# EAGLE library part LPS22HDTR (library Pressure)
Board Mount Pressure Sensors Piezoresistive absolute pressure sensor, 260-1260 hPa, digital output barometer, small and thin package Source: Datasheet <https://www.st.com/resource/en/datasheet/lps22hd.pdf>
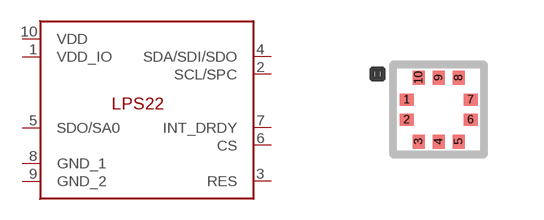
[diagram p0: symbol with the pads of LPS22HDTR; footprint LPS22HDTR]

Designator prefix U

## LPS22HDTR (DESCRIPTION: Board Mount Pressure Sensors Piezoresistive absolute pressure sensor, 260-1260 hPa, digital output barometer, small and thin package; HEIGHT: 0.8mm; MANUFACTURER_NAME: STMicroelectronics; MANUFACTURER_PART_NUMBER: LPS22HDTR; MOUSER_PART_NUMBER: 511-LPS22HDTR; MOUSER_PRICE-STOCK: https://www.mouser.co.uk/ProductDetail/STMicroelectronics/LPS22HDTR?qs=qVqInAHJvrZgdoVrJXJCrw%3D%3D)  [LPS22HDTR]
1  VDD_IO
2  SCL/SPC
3  RES
4  SDA/SDI/SDO
5  SDO/SA0
6  CS
7  INT_DRDY
8  GND_1
9  GND_2
10  VDD

## Footprint LPS22HDTR (pad centres in mm)
LPS22HDTR-2
smd 0.35 x 0.3: 1 -0.8,0.25; 2 -0.8,-0.25; 6 0.8,-0.25; 7 0.8,0.25
smd 0.3 x 0.35: 3 -0.5,-0.8; 4 0,-0.8; 5 0.5,-0.8; 8 0.5,0.8; 9 0,0.8; 10 -0.5,0.8